# Altium schematic symbol library bk_sch.SchLib: 34 symbols
Pins are listed as number, name and electrical type; pins without a type are passive.

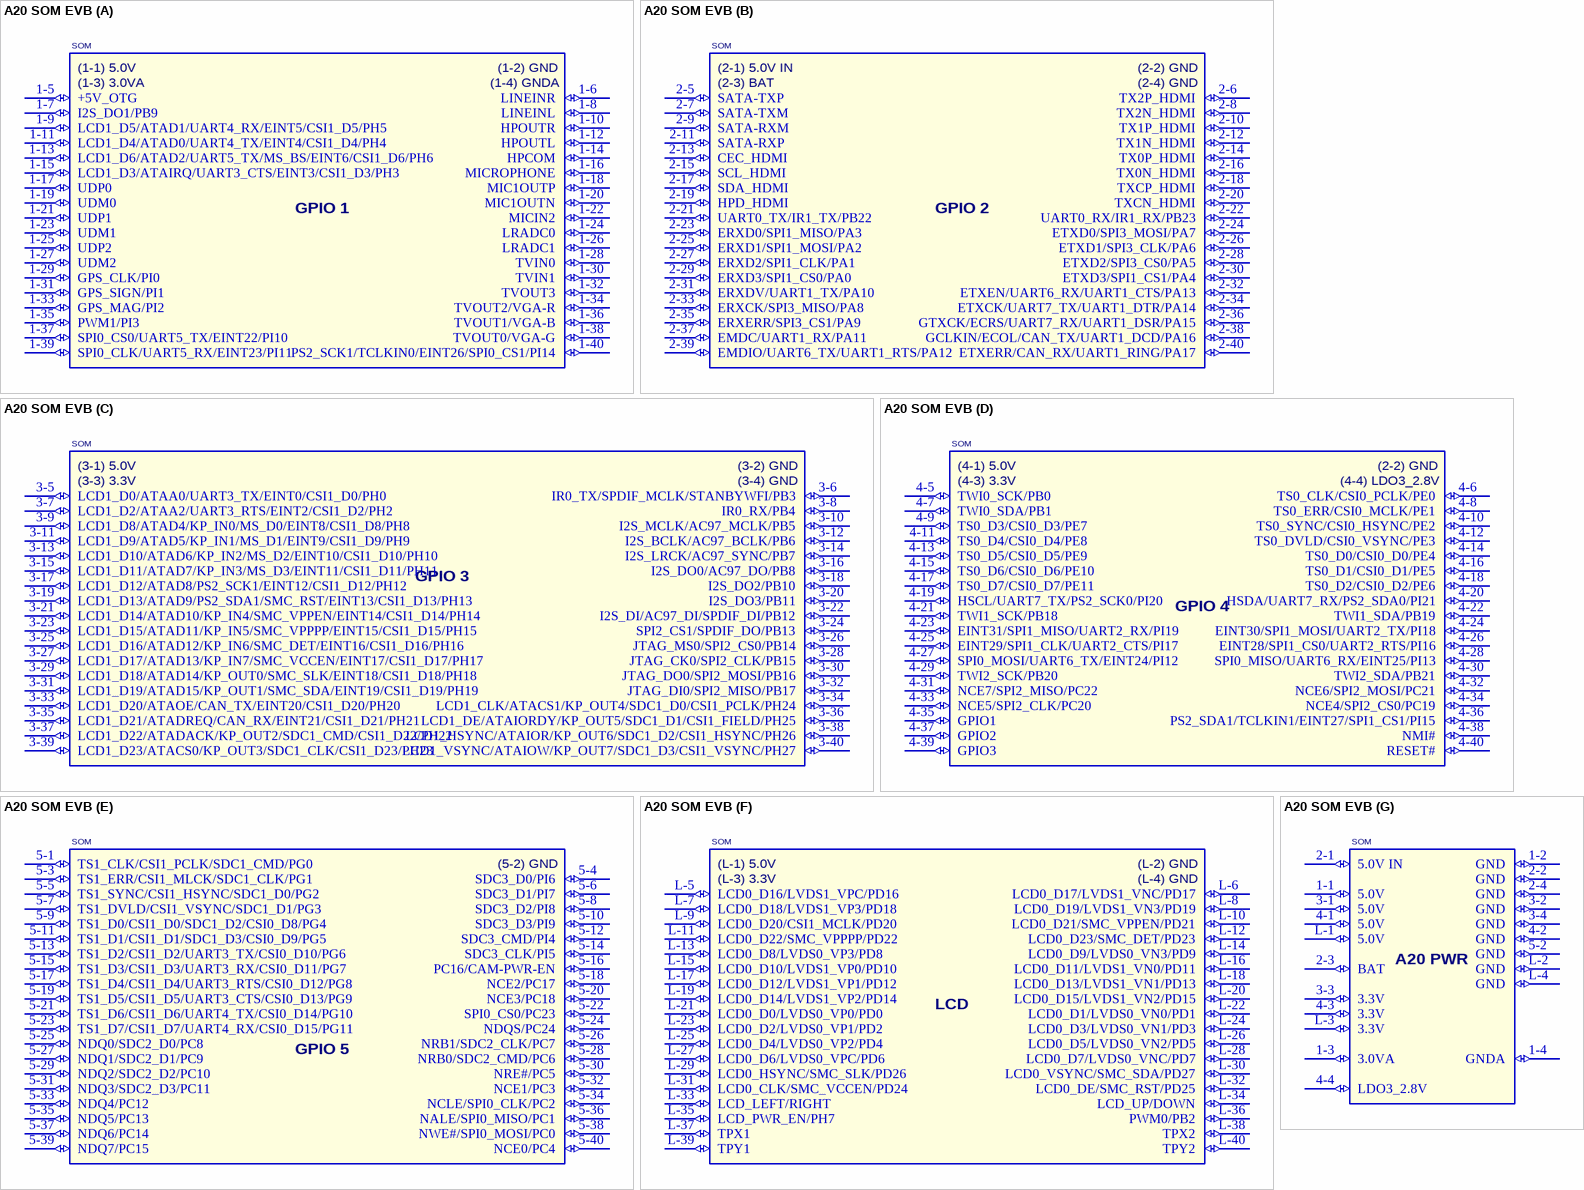
[diagram p0: symbol A20 SOM EVB]

## A20 SOM EVB
designator =Name  Name: SOM
footprint A20 SOM EVB
part A pins: 1-5 +5V_OTG (io), 1-6 LINEINR (io), 1-7 I2S_DO1/PB9 (io), 1-8 LINEINL (io), 1-9 LCD1_D5/ATAD1/UART4_RX/EINT5/CSI1_D5/PH5 (io), 1-10 HPOUTR (io), 1-11 LCD1_D4/ATAD0/UART4_TX/EINT4/CSI1_D4/PH4 (io), 1-12 HPOUTL (io), 1-13 LCD1_D6/ATAD2/UART5_TX/MS_BS/EINT6/CSI1_D6/PH6 (io), 1-14 HPCOM (io), 1-15 LCD1_D3/ATAIRQ/UART3_CTS/EINT3/CSI1_D3/PH3 (io), 1-16 MICROPHONE (io), 1-17 UDP0 (io), 1-18 MIC1OUTP (io), 1-19 UDM0 (io), 1-20 MIC1OUTN (io), 1-21 UDP1 (io), 1-22 MICIN2 (io), 1-23 UDM1 (io), 1-24 LRADC0 (io), 1-25 UDP2 (io), 1-26 LRADC1 (io), 1-27 UDM2 (io), 1-28 TVIN0 (io), 1-29 GPS_CLK/PI0 (io), 1-30 TVIN1 (io), 1-31 GPS_SIGN/PI1 (io), 1-32 TVOUT3 (io), 1-33 GPS_MAG/PI2 (io), 1-34 TVOUT2/VGA-R (io), 1-35 PWM1/PI3 (io), 1-36 TVOUT1/VGA-B (io), 1-37 SPI0_CS0/UART5_TX/EINT22/PI10 (io), 1-38 TVOUT0/VGA-G (io), 1-39 SPI0_CLK/UART5_RX/EINT23/PI11 (io), 1-40 PS2_SCK1/TCLKIN0/EINT26/SPI0_CS1/PI14 (io)
part B pins: 2-5 SATA-TXP (io), 2-6 TX2P_HDMI (io), 2-7 SATA-TXM (io), 2-8 TX2N_HDMI (io), 2-9 SATA-RXM (io), 2-10 TX1P_HDMI (io), 2-11 SATA-RXP (io), 2-12 TX1N_HDMI (io), 2-13 CEC_HDMI (io), 2-14 TX0P_HDMI (io), 2-15 SCL_HDMI (io), 2-16 TX0N_HDMI (io), 2-17 SDA_HDMI (io), 2-18 TXCP_HDMI (io), 2-19 HPD_HDMI (io), 2-20 TXCN_HDMI (io), 2-21 UART0_TX/IR1_TX/PB22 (io), 2-22 UART0_RX/IR1_RX/PB23 (io), 2-23 ERXD0/SPI1_MISO/PA3 (io), 2-24 ETXD0/SPI3_MOSI/PA7 (io), 2-25 ERXD1/SPI1_MOSI/PA2 (io), 2-26 ETXD1/SPI3_CLK/PA6 (io), 2-27 ERXD2/SPI1_CLK/PA1 (io), 2-28 ETXD2/SPI3_CS0/PA5 (io), 2-29 ERXD3/SPI1_CS0/PA0 (io), 2-30 ETXD3/SPI1_CS1/PA4 (io), 2-31 ERXDV/UART1_TX/PA10 (io), 2-32 ETXEN/UART6_RX/UART1_CTS/PA13 (io), 2-33 ERXCK/SPI3_MISO/PA8 (io), 2-34 ETXCK/UART7_TX/UART1_DTR/PA14 (io), 2-35 ERXERR/SPI3_CS1/PA9 (io), 2-36 GTXCK/ECRS/UART7_RX/UART1_DSR/PA15 (io), 2-37 EMDC/UART1_RX/PA11 (io), 2-38 GCLKIN/ECOL/CAN_TX/UART1_DCD/PA16 (io), 2-39 EMDIO/UART6_TX/UART1_RTS/PA12 (io), 2-40 ETXERR/CAN_RX/UART1_RING/PA17 (io)
part C pins: 3-5 LCD1_D0/ATAA0/UART3_TX/EINT0/CSI1_D0/PH0 (io), 3-6 IR0_TX/SPDIF_MCLK/STANBYWFI/PB3 (io), 3-7 LCD1_D2/ATAA2/UART3_RTS/EINT2/CSI1_D2/PH2 (io), 3-8 IR0_RX/PB4 (io), 3-9 LCD1_D8/ATAD4/KP_IN0/MS_D0/EINT8/CSI1_D8/PH8 (io), 3-10 I2S_MCLK/AC97_MCLK/PB5 (io), 3-11 LCD1_D9/ATAD5/KP_IN1/MS_D1/EINT9/CSI1_D9/PH9 (io), 3-12 I2S_BCLK/AC97_BCLK/PB6 (io), 3-13 LCD1_D10/ATAD6/KP_IN2/MS_D2/EINT10/CSI1_D10/PH10 (io), 3-14 I2S_LRCK/AC97_SYNC/PB7 (io), 3-15 LCD1_D11/ATAD7/KP_IN3/MS_D3/EINT11/CSI1_D11/PH11 (io), 3-16 I2S_DO0/AC97_DO/PB8 (io), 3-17 LCD1_D12/ATAD8/PS2_SCK1/EINT12/CSI1_D12/PH12 (io), 3-18 I2S_DO2/PB10 (io), 3-19 LCD1_D13/ATAD9/PS2_SDA1/SMC_RST/EINT13/CSI1_D13/PH13 (io), 3-20 I2S_DO3/PB11 (io), 3-21 LCD1_D14/ATAD10/KP_IN4/SMC_VPPEN/EINT14/CSI1_D14/PH14 (io), 3-22 I2S_DI/AC97_DI/SPDIF_DI/PB12 (io), 3-23 LCD1_D15/ATAD11/KP_IN5/SMC_VPPPP/EINT15/CSI1_D15/PH15 (io), 3-24 SPI2_CS1/SPDIF_DO/PB13 (io), 3-25 LCD1_D16/ATAD12/KP_IN6/SMC_DET/EINT16/CSI1_D16/PH16 (io), 3-26 JTAG_MS0/SPI2_CS0/PB14 (io), 3-27 LCD1_D17/ATAD13/KP_IN7/SMC_VCCEN/EINT17/CSI1_D17/PH17 (io), 3-28 JTAG_CK0/SPI2_CLK/PB15 (io), 3-29 LCD1_D18/ATAD14/KP_OUT0/SMC_SLK/EINT18/CSI1_D18/PH18 (io), 3-30 JTAG_DO0/SPI2_MOSI/PB16 (io), 3-31 LCD1_D19/ATAD15/KP_OUT1/SMC_SDA/EINT19/CSI1_D19/PH19 (io), 3-32 JTAG_DI0/SPI2_MISO/PB17 (io), 3-33 LCD1_D20/ATAOE/CAN_TX/EINT20/CSI1_D20/PH20 (io), 3-34 LCD1_CLK/ATACS1/KP_OUT4/SDC1_D0/CSI1_PCLK/PH24 (io), 3-35 LCD1_D21/ATADREQ/CAN_RX/EINT21/CSI1_D21/PH21 (io), 3-36 LCD1_DE/ATAIORDY/KP_OUT5/SDC1_D1/CSI1_FIELD/PH25 (io), 3-37 LCD1_D22/ATADACK/KP_OUT2/SDC1_CMD/CSI1_D22/PH22 (io), 3-38 LCD1_HSYNC/ATAIOR/KP_OUT6/SDC1_D2/CSI1_HSYNC/PH26 (io), 3-39 LCD1_D23/ATACS0/KP_OUT3/SDC1_CLK/CSI1_D23/PH23 (io), 3-40 LCD1_VSYNC/ATAIOW/KP_OUT7/SDC1_D3/CSI1_VSYNC/PH27 (io)
part D pins: 4-5 TWI0_SCK/PB0 (io), 4-6 TS0_CLK/CSI0_PCLK/PE0 (io), 4-7 TWI0_SDA/PB1 (io), 4-8 TS0_ERR/CSI0_MCLK/PE1 (io), 4-9 TS0_D3/CSI0_D3/PE7 (io), 4-10 TS0_SYNC/CSI0_HSYNC/PE2 (io), 4-11 TS0_D4/CSI0_D4/PE8 (io), 4-12 TS0_DVLD/CSI0_VSYNC/PE3 (io), 4-13 TS0_D5/CSI0_D5/PE9 (io), 4-14 TS0_D0/CSI0_D0/PE4 (io), 4-15 TS0_D6/CSI0_D6/PE10 (io), 4-16 TS0_D1/CSI0_D1/PE5 (io), 4-17 TS0_D7/CSI0_D7/PE11 (io), 4-18 TS0_D2/CSI0_D2/PE6 (io), 4-19 HSCL/UART7_TX/PS2_SCK0/PI20 (io), 4-20 HSDA/UART7_RX/PS2_SDA0/PI21 (io), 4-21 TWI1_SCK/PB18 (io), 4-22 TWI1_SDA/PB19 (io), 4-23 EINT31/SPI1_MISO/UART2_RX/PI19 (io), 4-24 EINT30/SPI1_MOSI/UART2_TX/PI18 (io), 4-25 EINT29/SPI1_CLK/UART2_CTS/PI17 (io), 4-26 EINT28/SPI1_CS0/UART2_RTS/PI16 (io), 4-27 SPI0_MOSI/UART6_TX/EINT24/PI12 (io), 4-28 SPI0_MISO/UART6_RX/EINT25/PI13 (io), 4-29 TWI2_SCK/PB20 (io), 4-30 TWI2_SDA/PB21 (io), 4-31 NCE7/SPI2_MISO/PC22 (io), 4-32 NCE6/SPI2_MOSI/PC21 (io), 4-33 NCE5/SPI2_CLK/PC20 (io), 4-34 NCE4/SPI2_CS0/PC19 (io), 4-35 GPIO1 (io), 4-36 PS2_SDA1/TCLKIN1/EINT27/SPI1_CS1/PI15 (io), 4-37 GPIO2 (io), 4-38 NMI# (io), 4-39 GPIO3 (io), 4-40 RESET# (io)
part E pins: 5-1 TS1_CLK/CSI1_PCLK/SDC1_CMD/PG0 (io), 5-3 TS1_ERR/CSI1_MLCK/SDC1_CLK/PG1 (io), 5-4 SDC3_D0/PI6 (io), 5-5 TS1_SYNC/CSI1_HSYNC/SDC1_D0/PG2 (io), 5-6 SDC3_D1/PI7 (io), 5-7 TS1_DVLD/CSI1_VSYNC/SDC1_D1/PG3 (io), 5-8 SDC3_D2/PI8 (io), 5-9 TS1_D0/CSI1_D0/SDC1_D2/CSI0_D8/PG4 (io), 5-10 SDC3_D3/PI9 (io), 5-11 TS1_D1/CSI1_D1/SDC1_D3/CSI0_D9/PG5 (io), 5-12 SDC3_CMD/PI4 (io), 5-13 TS1_D2/CSI1_D2/UART3_TX/CSI0_D10/PG6 (io), 5-14 SDC3_CLK/PI5 (io), 5-15 TS1_D3/CSI1_D3/UART3_RX/CSI0_D11/PG7 (io), 5-16 PC16/CAM-PWR-EN (io), 5-17 TS1_D4/CSI1_D4/UART3_RTS/CSI0_D12/PG8 (io), 5-18 NCE2/PC17 (io), 5-19 TS1_D5/CSI1_D5/UART3_CTS/CSI0_D13/PG9 (io), 5-20 NCE3/PC18 (io), 5-21 TS1_D6/CSI1_D6/UART4_TX/CSI0_D14/PG10 (io), 5-22 SPI0_CS0/PC23 (io), 5-23 TS1_D7/CSI1_D7/UART4_RX/CSI0_D15/PG11 (io), 5-24 NDQS/PC24 (io), 5-25 NDQ0/SDC2_D0/PC8 (io), 5-26 NRB1/SDC2_CLK/PC7 (io), 5-27 NDQ1/SDC2_D1/PC9 (io), 5-28 NRB0/SDC2_CMD/PC6 (io), 5-29 NDQ2/SDC2_D2/PC10 (io), 5-30 NRE#/PC5 (io), 5-31 NDQ3/SDC2_D3/PC11 (io), 5-32 NCE1/PC3 (io), 5-33 NDQ4/PC12 (io), 5-34 NCLE/SPI0_CLK/PC2 (io), 5-35 NDQ5/PC13 (io), 5-36 NALE/SPI0_MISO/PC1 (io), 5-37 NDQ6/PC14 (io), 5-38 NWE#/SPI0_MOSI/PC0 (io), 5-39 NDQ7/PC15 (io), 5-40 NCE0/PC4 (io)
part F pins: L-5 LCD0_D16/LVDS1_VPC/PD16 (io), L-6 LCD0_D17/LVDS1_VNC/PD17 (io), L-7 LCD0_D18/LVDS1_VP3/PD18 (io), L-8 LCD0_D19/LVDS1_VN3/PD19 (io), L-9 LCD0_D20/CSI1_MCLK/PD20 (io), L-10 LCD0_D21/SMC_VPPEN/PD21 (io), L-11 LCD0_D22/SMC_VPPPP/PD22 (io), L-12 LCD0_D23/SMC_DET/PD23 (io), L-13 LCD0_D8/LVDS0_VP3/PD8 (io), L-14 LCD0_D9/LVDS0_VN3/PD9 (io), L-15 LCD0_D10/LVDS1_VP0/PD10 (io), L-16 LCD0_D11/LVDS1_VN0/PD11 (io), L-17 LCD0_D12/LVDS1_VP1/PD12 (io), L-18 LCD0_D13/LVDS1_VN1/PD13 (io), L-19 LCD0_D14/LVDS1_VP2/PD14 (io), L-20 LCD0_D15/LVDS1_VN2/PD15 (io), L-21 LCD0_D0/LVDS0_VP0/PD0 (io), L-22 LCD0_D1/LVDS0_VN0/PD1 (io), L-23 LCD0_D2/LVDS0_VP1/PD2 (io), L-24 LCD0_D3/LVDS0_VN1/PD3 (io), L-25 LCD0_D4/LVDS0_VP2/PD4 (io), L-26 LCD0_D5/LVDS0_VN2/PD5 (io), L-27 LCD0_D6/LVDS0_VPC/PD6 (io), L-28 LCD0_D7/LVDS0_VNC/PD7 (io), L-29 LCD0_HSYNC/SMC_SLK/PD26 (io), L-30 LCD0_VSYNC/SMC_SDA/PD27 (io), L-31 LCD0_CLK/SMC_VCCEN/PD24 (io), L-32 LCD0_DE/SMC_RST/PD25 (io), L-33 LCD_LEFT/RIGHT (io), L-34 LCD_UP/DOWN (io), L-35 LCD_PWR_EN/PH7 (io), L-36 PWM0/PB2 (io), L-37 TPX1 (io), L-38 TPX2 (io), L-39 TPY1 (io), L-40 TPY2 (io)
part G pins: 1-1 5.0V (io), 1-2 GND (io), 1-3 3.0VA (io), 1-4 GNDA (io), 2-1 5.0V IN (io), 2-2 GND (io), 2-3 BAT (io), 2-4 GND (io), 3-1 5.0V (io), 3-2 GND (io), 3-3 3.3V (io), 3-4 GND (io), 4-1 5.0V (io), 4-2 GND (io), 4-3 3.3V (io), 4-4 LDO3_2.8V (io), 5-2 GND (io), L-1 5.0V (io), L-2 GND (io), L-3 3.3V (io), L-4 GND (io)
part A text: (1-1) 5.0V; (1-2) GND; (1-3) 3.0VA; (1-4) GNDA; GPIO 1
part B text: (2-1) 5.0V IN; (2-2) GND; (2-3) BAT; (2-4) GND; GPIO 2
part C text: (3-1) 5.0V; (3-2) GND; (3-3) 3.3V; (3-4) GND; GPIO 3
part D text: (4-1) 5.0V; (2-2) GND; (4-3) 3.3V; (4-4) LDO3_2.8V; GPIO 4
part E text: (5-2) GND; GPIO 5
part F text: (L-1) 5.0V; (L-2) GND; (L-3) 3.3V; (L-4) GND; LCD
part G text: A20 PWR

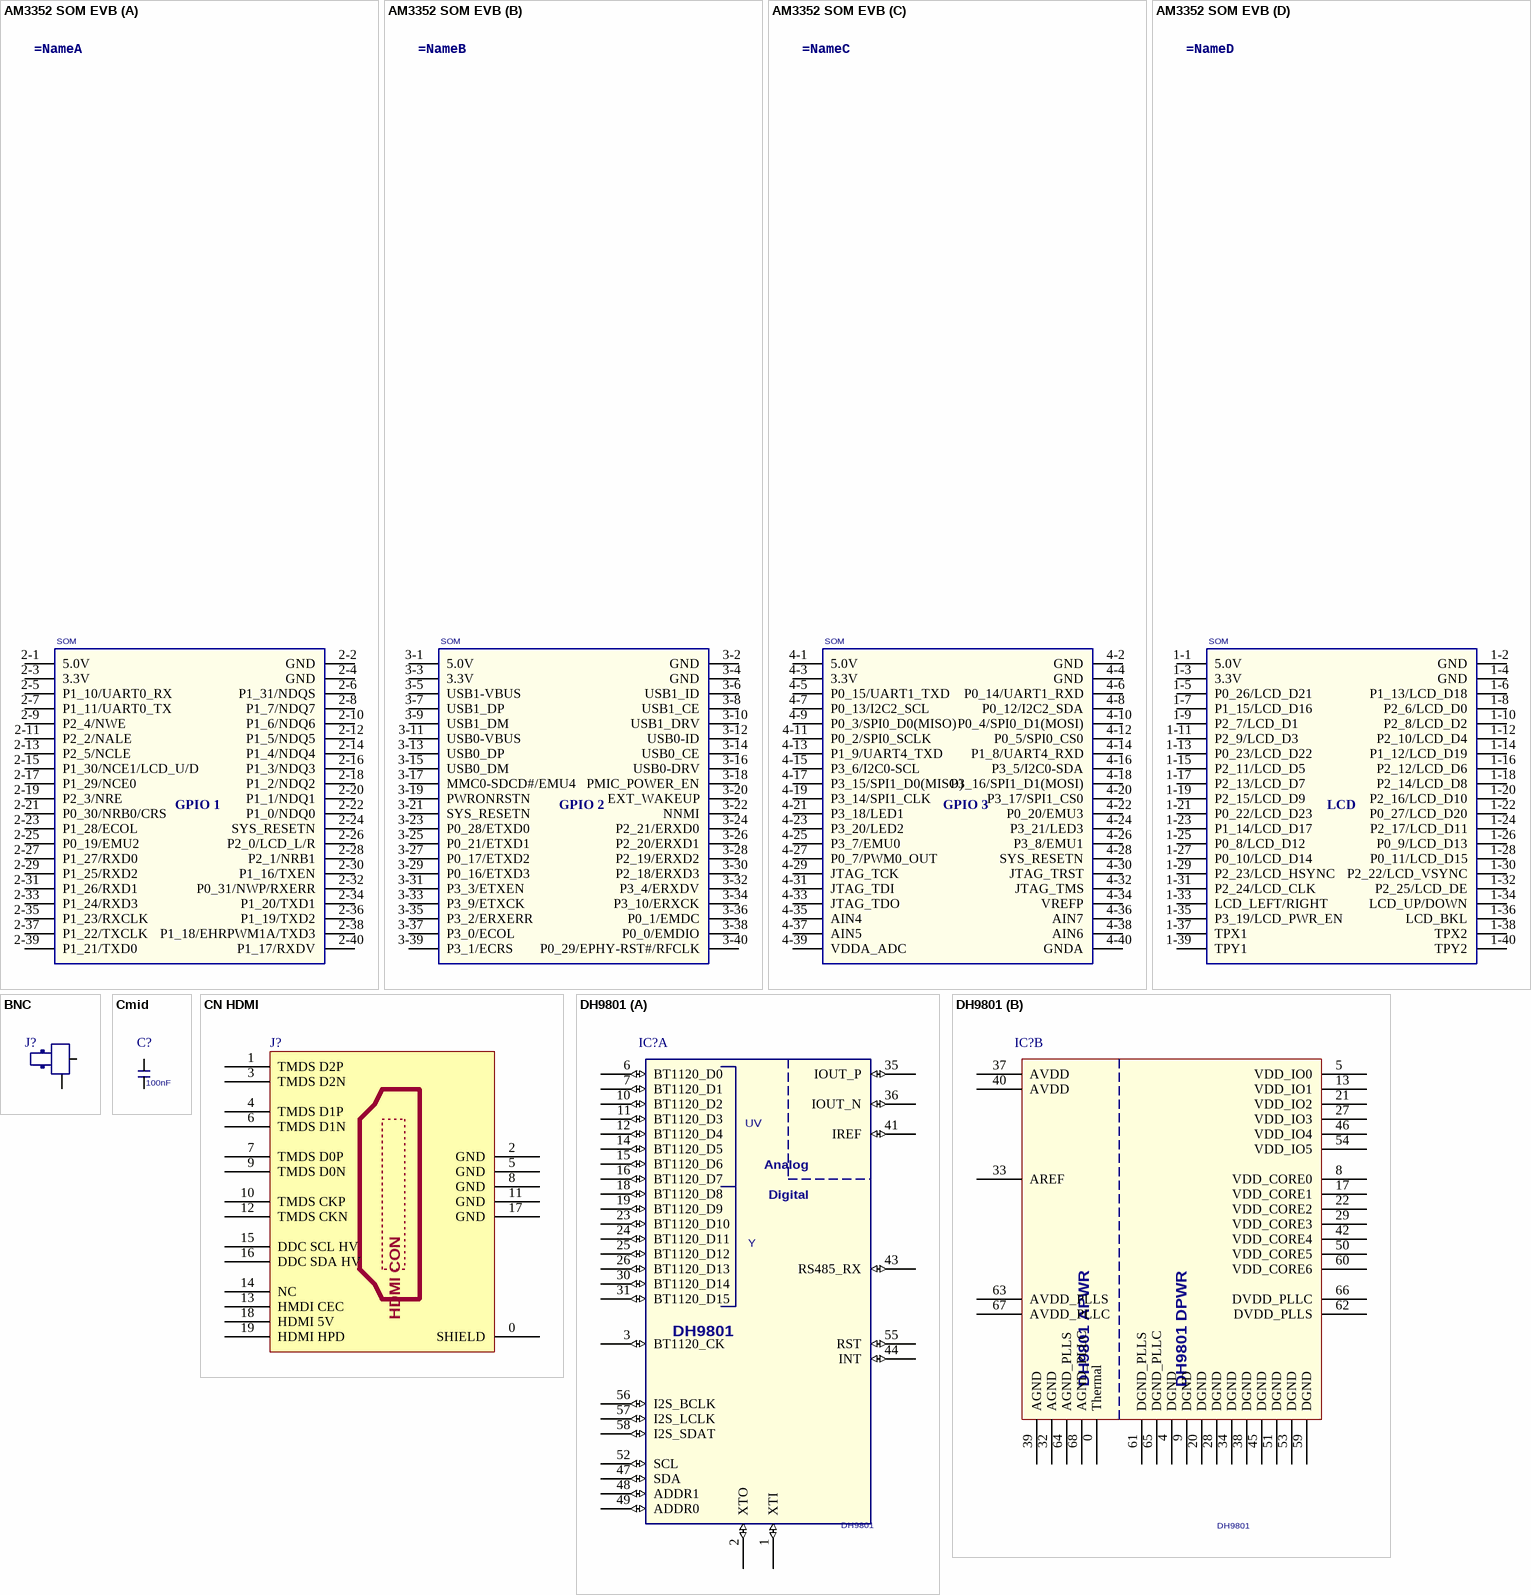
[diagram p1: symbols AM3352 SOM EVB to DH9801]

## AM3352 SOM EVB
designator =Name  Name: SOM
A20 EVB (Olimex)
footprint AM3352 SOM EVB (AM3352-SOM-EVB)
part A pins: 2-1 5.0V, 2-2 GND, 2-3 3.3V, 2-4 GND, 2-5 P1_10/UART0_RX, 2-6 P1_31/NDQS, 2-7 P1_11/UART0_TX, 2-8 P1_7/NDQ7, 2-9 P2_4/NWE, 2-10 P1_6/NDQ6, 2-11 P2_2/NALE, 2-12 P1_5/NDQ5, 2-13 P2_5/NCLE, 2-14 P1_4/NDQ4, 2-15 P1_30/NCE1/LCD_U/D, 2-16 P1_3/NDQ3, 2-17 P1_29/NCE0, 2-18 P1_2/NDQ2, 2-19 P2_3/NRE, 2-20 P1_1/NDQ1, 2-21 P0_30/NRB0/CRS, 2-22 P1_0/NDQ0, 2-23 P1_28/ECOL, 2-24 SYS_RESETN, 2-25 P0_19/EMU2, 2-26 P2_0/LCD_L/R, 2-27 P1_27/RXD0, 2-28 P2_1/NRB1, 2-29 P1_25/RXD2, 2-30 P1_16/TXEN, 2-31 P1_26/RXD1, 2-32 P0_31/NWP/RXERR, 2-33 P1_24/RXD3, 2-34 P1_20/TXD1, 2-35 P1_23/RXCLK, 2-36 P1_19/TXD2, 2-37 P1_22/TXCLK, 2-38 P1_18/EHRPWM1A/TXD3, 2-39 P1_21/TXD0, 2-40 P1_17/RXDV
part B pins: 3-1 5.0V, 3-2 GND, 3-3 3.3V, 3-4 GND, 3-5 USB1-VBUS, 3-6 USB1_ID, 3-7 USB1_DP, 3-8 USB1_CE, 3-9 USB1_DM, 3-10 USB1_DRV, 3-11 USB0-VBUS, 3-12 USB0-ID, 3-13 USB0_DP, 3-14 USB0_CE, 3-15 USB0_DM, 3-16 USB0-DRV, 3-17 MMC0-SDCD#/EMU4, 3-18 PMIC_POWER_EN, 3-19 PWRONRSTN, 3-20 EXT_WAKEUP, 3-21 SYS_RESETN, 3-22 NNMI, 3-23 P0_28/ETXD0, 3-24 P2_21/ERXD0, 3-25 P0_21/ETXD1, 3-26 P2_20/ERXD1, 3-27 P0_17/ETXD2, 3-28 P2_19/ERXD2, 3-29 P0_16/ETXD3, 3-30 P2_18/ERXD3, 3-31 P3_3/ETXEN, 3-32 P3_4/ERXDV, 3-33 P3_9/ETXCK, 3-34 P3_10/ERXCK, 3-35 P3_2/ERXERR, 3-36 P0_1/EMDC, 3-37 P3_0/ECOL, 3-38 P0_0/EMDIO, 3-39 P3_1/ECRS, 3-40 P0_29/EPHY-RST#/RFCLK
part C pins: 4-1 5.0V, 4-2 GND, 4-3 3.3V, 4-4 GND, 4-5 P0_15/UART1_TXD, 4-6 P0_14/UART1_RXD, 4-7 P0_13/I2C2_SCL, 4-8 P0_12/I2C2_SDA, 4-9 P0_3/SPI0_D0(MISO), 4-10 P0_4/SPI0_D1(MOSI), 4-11 P0_2/SPI0_SCLK, 4-12 P0_5/SPI0_CS0, 4-13 P1_9/UART4_TXD, 4-14 P1_8/UART4_RXD, 4-15 P3_6/I2C0-SCL, 4-16 P3_5/I2C0-SDA, 4-17 P3_15/SPI1_D0(MISO), 4-18 P3_16/SPI1_D1(MOSI), 4-19 P3_14/SPI1_CLK, 4-20 P3_17/SPI1_CS0, 4-21 P3_18/LED1, 4-22 P0_20/EMU3, 4-23 P3_20/LED2, 4-24 P3_21/LED3, 4-25 P3_7/EMU0, 4-26 P3_8/EMU1, 4-27 P0_7/PWM0_OUT, 4-28 SYS_RESETN, 4-29 JTAG_TCK, 4-30 JTAG_TRST, 4-31 JTAG_TDI, 4-32 JTAG_TMS, 4-33 JTAG_TDO, 4-34 VREFP, 4-35 AIN4, 4-36 AIN7, 4-37 AIN5, 4-38 AIN6, 4-39 VDDA_ADC, 4-40 GNDA
part D pins: 1-1 5.0V, 1-2 GND, 1-3 3.3V, 1-4 GND, 1-5 P0_26/LCD_D21, 1-6 P1_13/LCD_D18, 1-7 P1_15/LCD_D16, 1-8 P2_6/LCD_D0, 1-9 P2_7/LCD_D1, 1-10 P2_8/LCD_D2, 1-11 P2_9/LCD_D3, 1-12 P2_10/LCD_D4, 1-13 P0_23/LCD_D22, 1-14 P1_12/LCD_D19, 1-15 P2_11/LCD_D5, 1-16 P2_12/LCD_D6, 1-17 P2_13/LCD_D7, 1-18 P2_14/LCD_D8, 1-19 P2_15/LCD_D9, 1-20 P2_16/LCD_D10, 1-21 P0_22/LCD_D23, 1-22 P0_27/LCD_D20, 1-23 P1_14/LCD_D17, 1-24 P2_17/LCD_D11, 1-25 P0_8/LCD_D12, 1-26 P0_9/LCD_D13, 1-27 P0_10/LCD_D14, 1-28 P0_11/LCD_D15, 1-29 P2_23/LCD_HSYNC, 1-30 P2_22/LCD_VSYNC, 1-31 P2_24/LCD_CLK, 1-32 P2_25/LCD_DE, 1-33 LCD_LEFT/RIGHT, 1-34 LCD_UP/DOWN, 1-35 P3_19/LCD_PWR_EN, 1-36 LCD_BKL, 1-37 TPX1, 1-38 TPX2, 1-39 TPY1, 1-40 TPY2
part A text: GPIO 1
part B text: GPIO 2
part C text: GPIO 3
part D text: LCD

## BNC
designator J?
Name: J?
footprint BNC
pins: 1 hot (power), 2 GND (power)

## Cmid
designator C?, comment 100nF
Name: C?; Value: 100nF
footprint C0603
pins: 1 VDD (power), 2 VDD (power)

## CN HDMI
designator J?, comment AUK HDM19SW-4-L2-1R3HHCN  (value not drawn)
Molex HDMI connector, Type A; Name: J?; LatestRevisionDate: 17-Jul-2002; LatestRevisionNote: Re-released for DXP Platform.; Publisher: Altium Limited
footprint MOLEX_47151-0001 (Molex HDMI right angle header assembly)
signal-integrity model Connector
pins: 0 SHIELD, 1 TMDS D2P, 2 GND, 3 TMDS D2N, 4 TMDS D1P, 5 GND, 6 TMDS D1N, 7 TMDS D0P, 8 GND, 9 TMDS D0N, 10 TMDS CKP, 11 GND, 12 TMDS CKN, 13 HMDI CEC, 14 NC, 15 DDC SCL HV, 16 DDC SDA HV, 17 GND, 18 HDMI 5V, 19 HDMI HPD
text: HDMI CON

## DH9801
designator IC?
HD-CVI enc; Name: IC?; Value: DH9801
footprint MQFN68
part A pins: 1 XTI (io), 2 XTO (io), 3 BT1120_CK (io), 6 BT1120_D0 (io), 7 BT1120_D1 (io), 10 BT1120_D2 (io), 11 BT1120_D3 (io), 12 BT1120_D4 (io), 14 BT1120_D5 (io), 15 BT1120_D6 (io), 16 BT1120_D7 (io), 18 BT1120_D8 (io), 19 BT1120_D9 (io), 23 BT1120_D10 (io), 24 BT1120_D11 (io), 25 BT1120_D12 (io), 26 BT1120_D13 (io), 30 BT1120_D14 (io), 31 BT1120_D15 (io), 35 IOUT_P (io), 36 IOUT_N (io), 41 IREF (io), 43 RS485_RX (io), 44 INT (io), 47 SDA (io), 48 ADDR1 (io), 49 ADDR0 (io), 52 SCL (io), 55 RST (io), 56 I2S_BCLK (io), 57 I2S_LCLK (io), 58 I2S_SDAT (io)
part B pins: 0 Thermal (power), 4 DGND (power), 5 VDD_IO0 (power), 8 VDD_CORE0 (power), 9 DGND (power), 13 VDD_IO1 (power), 17 VDD_CORE1 (power), 20 DGND (power), 21 VDD_IO2 (power), 22 VDD_CORE2 (power), 27 VDD_IO3 (power), 28 DGND (power), 29 VDD_CORE3 (power), 32 AGND (power), 33 AREF (power), 34 DGND (power), 37 AVDD (power), 38 DGND (power), 39 AGND (power), 40 AVDD (power), 42 VDD_CORE4 (power), 45 DGND (power), 46 VDD_IO4 (power), 50 VDD_CORE5 (power), 51 DGND (power), 53 DGND (power), 54 VDD_IO5 (power), 59 DGND (power), 60 VDD_CORE6 (power), 61 DGND_PLLS (power), 62 DVDD_PLLS (power), 63 AVDD_PLLS (power), 64 AGND_PLLS (power), 65 DGND_PLLC (power), 66 DVDD_PLLC (power), 67 AVDD_PLLC (power), 68 AGND_PLLC (power)
part A text: UV; Analog; Digital; Y
part B text: DH9801 APWR; DH9801 DPWR

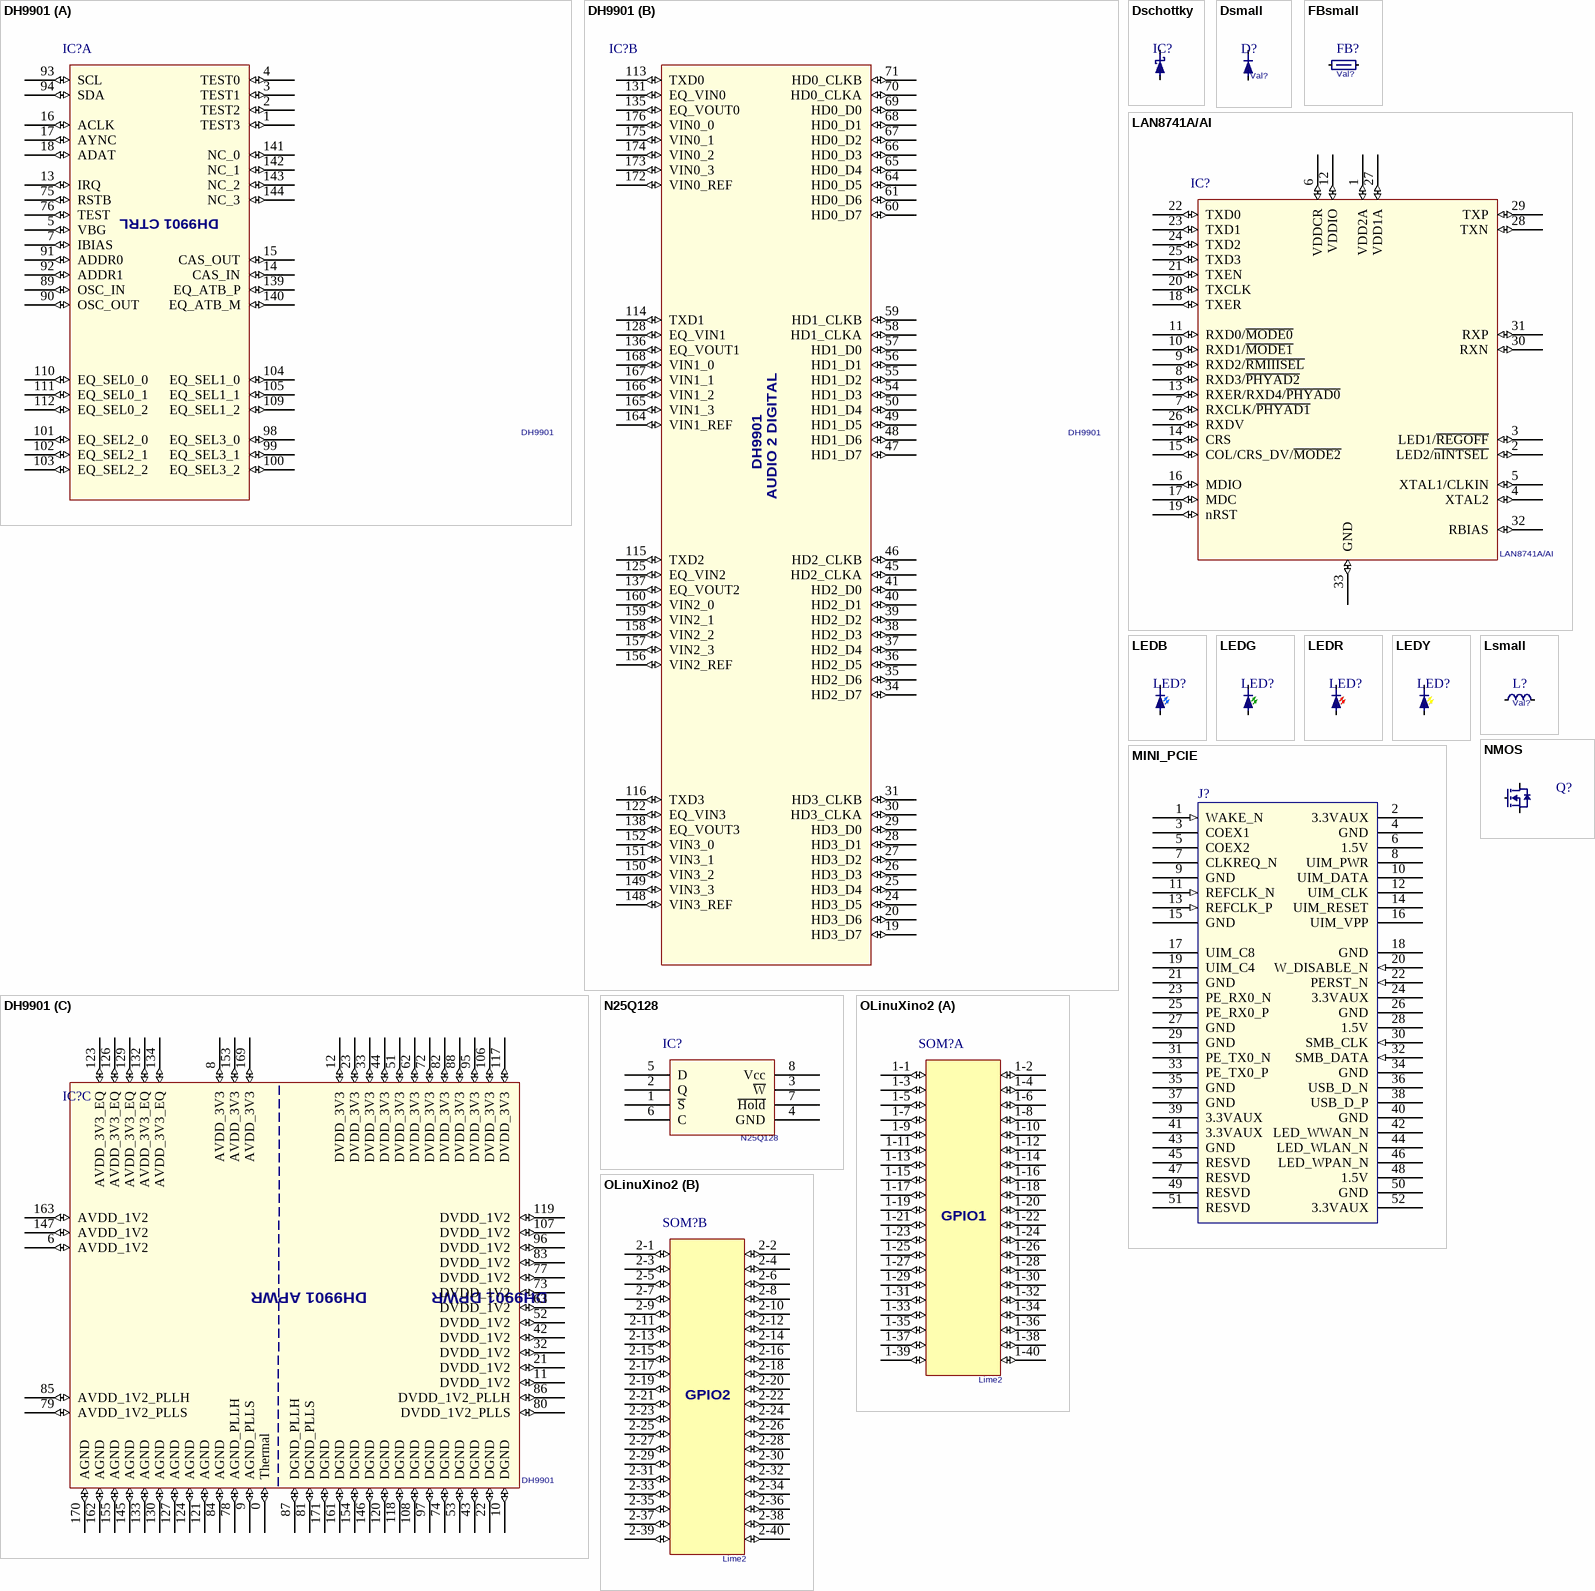
[diagram p2: symbols DH9901 to OLinuXino2]

## DH9901
designator IC?
HD-CVI dec; Name: IC?; Value: DH9901
footprint LQFP-EPAD 176 (TSQFP, 176-Leads, Body 20,00x20,00mm, Pitch 0,40mm, Thermal Pad 6,50x6,50mm, IPC Medium Density)
footprint LQFP-EPAD 176 - duplicate (TSQFP, 176-Leads, Body 20,00x20,00mm, Pitch 0,40mm, Thermal Pad 6,50x6,50mm, IPC Medium Density)
part A pins: 1 TEST3 (io), 2 TEST2 (io), 3 TEST1 (io), 4 TEST0 (io), 5 VBG (io), 7 IBIAS (io), 13 IRQ (io), 14 CAS_IN (io), 15 CAS_OUT (io), 16 ACLK (io), 17 AYNC (io), 18 ADAT (io), 75 RSTB (io), 76 TEST (io), 89 OSC_IN (io), 90 OSC_OUT (io), 91 ADDR0 (io), 92 ADDR1 (io), 93 SCL (io), 94 SDA (io), 98 EQ_SEL3_0 (io), 99 EQ_SEL3_1 (io), 100 EQ_SEL3_2 (io), 101 EQ_SEL2_0 (io), 102 EQ_SEL2_1 (io), 103 EQ_SEL2_2 (io), 104 EQ_SEL1_0 (io), 105 EQ_SEL1_1 (io), 109 EQ_SEL1_2 (io), 110 EQ_SEL0_0 (io), 111 EQ_SEL0_1 (io), 112 EQ_SEL0_2 (io), 139 EQ_ATB_P (io), 140 EQ_ATB_M (io), 141 NC_0 (io), 142 NC_1 (io), 143 NC_2 (io), 144 NC_3 (io)
part B pins: 19 HD3_D7 (io), 20 HD3_D6 (io), 24 HD3_D5 (io), 25 HD3_D4 (io), 26 HD3_D3 (io), 27 HD3_D2 (io), 28 HD3_D1 (io), 29 HD3_D0 (io), 30 HD3_CLKA (io), 31 HD3_CLKB (io), 34 HD2_D7 (io), 35 HD2_D6 (io), 36 HD2_D5 (io), 37 HD2_D4 (io), 38 HD2_D3 (io), 39 HD2_D2 (io), 40 HD2_D1 (io), 41 HD2_D0 (io), 45 HD2_CLKA (io), 46 HD2_CLKB (io), 47 HD1_D7 (io), 48 HD1_D6 (io), 49 HD1_D5 (io), 50 HD1_D4 (io), 54 HD1_D3 (io), 55 HD1_D2 (io), 56 HD1_D1 (io), 57 HD1_D0 (io), 58 HD1_CLKA (io), 59 HD1_CLKB (io), 60 HD0_D7 (io), 61 HD0_D6 (io), 64 HD0_D5 (io), 65 HD0_D4 (io), 66 HD0_D3 (io), 67 HD0_D2 (io), 68 HD0_D1 (io), 69 HD0_D0 (io), 70 HD0_CLKA (io), 71 HD0_CLKB (io), 113 TXD0 (io), 114 TXD1 (io), 115 TXD2 (io), 116 TXD3 (io), 122 EQ_VIN3 (io), 125 EQ_VIN2 (io), 128 EQ_VIN1 (io), 131 EQ_VIN0 (io), 135 EQ_VOUT0 (io), 136 EQ_VOUT1 (io), 137 EQ_VOUT2 (io), 138 EQ_VOUT3 (io), 148 VIN3_REF (io), 149 VIN3_3 (io), 150 VIN3_2 (io), 151 VIN3_1 (io), 152 VIN3_0 (io), 156 VIN2_REF (io), 157 VIN2_3 (io), 158 VIN2_2 (io), 159 VIN2_1 (io), 160 VIN2_0 (io), 164 VIN1_REF (io), 165 VIN1_3 (io), 166 VIN1_2 (io), 167 VIN1_1 (io), 168 VIN1_0 (io), 172 VIN0_REF (io), 173 VIN0_3 (io), 174 VIN0_2 (io), 175 VIN0_1 (io), 176 VIN0_0 (io)
part C pins: 0 Thermal (io), 6 AVDD_1V2 (io), 8 AVDD_3V3 (io), 9 AGND_PLLS (io), 10 DGND (io), 11 DVDD_1V2 (io), 12 DVDD_3V3 (io), 21 DVDD_1V2 (io), 22 DGND (io), 23 DVDD_3V3 (io), 32 DVDD_1V2 (io), 33 DVDD_3V3 (io), 42 DVDD_1V2 (io), 43 DGND (io), 44 DVDD_3V3 (io), 51 DVDD_3V3 (io), 52 DVDD_1V2 (io), 53 DGND (io), 62 DVDD_3V3 (io), 63 DVDD_1V2 (io), 72 DVDD_3V3 (io), 73 DVDD_1V2 (io), 74 DGND (io), 77 DVDD_1V2 (io), 78 AGND_PLLH (io), 79 AVDD_1V2_PLLS (io), 80 DVDD_1V2_PLLS (io), 81 DGND_PLLS (io), 82 DVDD_3V3 (io), 83 DVDD_1V2 (io), 84 AGND (io), 85 AVDD_1V2_PLLH (io), 86 DVDD_1V2_PLLH (io), 87 DGND_PLLH (io), 88 DVDD_3V3 (io), 95 DVDD_3V3 (io), 96 DVDD_1V2 (io), 97 DGND (io), 106 DVDD_3V3 (io), 107 DVDD_1V2 (io), 108 DGND (io), 117 DVDD_3V3 (io), 118 DGND (io), 119 DVDD_1V2 (io), 120 DGND (io), 121 AGND (io), 123 AVDD_3V3_EQ (io), 124 AGND (io), 126 AVDD_3V3_EQ (io), 127 AGND (io), 129 AVDD_3V3_EQ (io), 130 AGND (io), 132 AVDD_3V3_EQ (io), 133 AGND (io), 134 AVDD_3V3_EQ (io), 145 AGND (io), 146 DGND (io), 147 AVDD_1V2 (io), 153 AVDD_3V3 (io), 154 DGND (io), 155 AGND (io), 161 DGND (io), 162 AGND (io), 163 AVDD_1V2 (io), 169 AVDD_3V3 (io), 170 AGND (io), 171 DGND (io)
part A text: DH9901 CTRL
part B text: AUDIO 2 DIGITAL
part C text: DH9901 APWR; DH9901 DPWR

## Dschottky
designator IC?
Name: D?
footprint SMB
footprint SMA
footprint R0805
footprint R0603
pins: 1 (power), 2 (power)

## Dsmall
designator D?, comment Val?
Name: D?; Value: Val?
footprint SMB
footprint SMA
footprint R0805
footprint R0603
pins: 1 (power), 2 (power)

## FBsmall
designator FB?, comment Val?
Name: FB?; Value: Val?
footprint R0603
footprint R0805
footprint L1206
footprint L1210
pins: 1 (power), 2 (power)

## LAN8741A/AI
designator IC?
Name: IC?; Value: LAN8741A/AI
footprint QFN33 (QFN; 33 Leads; Body 7 x 7 mm; Pitch 0.85 mm)
pins: 1 VDD2A (io), 2 LED2/~{nINTSEL} (io), 3 LED1/~{REGOFF} (io), 4 XTAL2 (io), 5 XTAL1/CLKIN (io), 6 VDDCR (io), 7 RXCLK/~{PHYAD1} (io), 8 RXD3/~{PHYAD2} (io), 9 RXD2/~{RMIIISEL} (io), 10 RXD1/~{MODE1} (io), 11 RXD0/~{MODE0} (io), 12 VDDIO (io), 13 RXER/RXD4/~{PHYAD0} (io), 14 CRS (io), 15 COL/CRS_DV/~{MODE2} (io), 16 MDIO (io), 17 MDC (io), 18 TXER (io), 19 nRST (io), 20 TXCLK (io), 21 TXEN (io), 22 TXD0 (io), 23 TXD1 (io), 24 TXD2 (io), 25 TXD3 (io), 26 RXDV (io), 27 VDD1A (io), 28 TXN (io), 29 TXP (io), 30 RXN (io), 31 RXP (io), 32 RBIAS (io), 33 GND (io)

## LEDB
designator LED?, comment BLUE  (value not drawn)
Blue LED; Name: LED?; Value: BLUE
footprint SMB
footprint SMA
footprint R0805
footprint R0603
pins: 1 (power), 2 (power)

## LEDG
designator LED?, comment Green  (value not drawn)
Green LED; Name: LED?; Value: Green
footprint SMB
footprint SMA
footprint R0805
footprint R0603
pins: 1 (power), 2 (power)

## LEDR
designator LED?, comment RED  (value not drawn)
Red LED; Name: LED?; Value: RED
footprint SMB
footprint SMA
footprint R0805
footprint R0603
pins: 1 (power), 2 (power)

## LEDY
designator LED?, comment Yellow  (value not drawn)
Yellow LED; Name: LED?; Value: Yellow
footprint SMB
footprint SMA
footprint R0805
footprint R0603
pins: 1 (power), 2 (power)

## Lsmall
designator L?, comment Val?
Name: L?; Value: Val?
footprint R0805
footprint R0603
footprint L1206
footprint L1210
pins: 1 GND (power), 2 GND (power)

## MINI_PCIE
designator J?, comment Mini PCI-express connector (TE 1717831 or Molex 679101002, 679100002, 0483380070)  (value not drawn)
Mini PCI-express, e.g. TE 1717831; Name: J?
footprint MPCI_FULL_TE_1717831 (Mini PCI-express full-length card)
pins: 1 WAKE_N (in), 2 3.3VAUX (power), 3 COEX1, 4 GND (power), 5 COEX2, 6 1.5V (power), 7 CLKREQ_N, 8 UIM_PWR, 9 GND (power), 10 UIM_DATA, 11 REFCLK_N (in), 12 UIM_CLK, 13 REFCLK_P (in), 14 UIM_RESET, 15 GND (power), 16 UIM_VPP, 17 UIM_C8, 18 GND (power), 19 UIM_C4, 20 W_DISABLE_N (in), 21 GND (power), 22 PERST_N (in), 23 PE_RX0_N, 24 3.3VAUX (power), 25 PE_RX0_P, 26 GND (power), 27 GND (power), 28 1.5V (power), 29 GND (power), 30 SMB_CLK (in), 31 PE_TX0_N, 32 SMB_DATA (in), 33 PE_TX0_P, 34 GND (power), 35 GND (power), 36 USB_D_N, 37 GND (power), 38 USB_D_P, 39 3.3VAUX (power), 40 GND (power), 41 3.3VAUX (power), 42 LED_WWAN_N, 43 GND (power), 44 LED_WLAN_N, 45 RESVD, 46 LED_WPAN_N, 47 RESVD, 48 1.5V (power), 49 RESVD, 50 GND (power), 51 RESVD, 52 3.3VAUX (power)

## N25Q128
designator IC?
Name: IC?; Value: N25Q128
footprint SO8W
pins: 1 ~{S} (power), 2 Q (power), 3 ~{W} (power), 4 GND (power), 5 D (power), 6 C (power), 7 ~{Hold} (power), 8 Vcc (power)

## NMOS
designator Q?
N MOS VDSS 20V Rdson 45mR 4.2A; Name: Q?; Published: 22-Jan-2007; Package Reference: TO-220
footprint sot-23
pins: 1 G, 2 S, 3 D

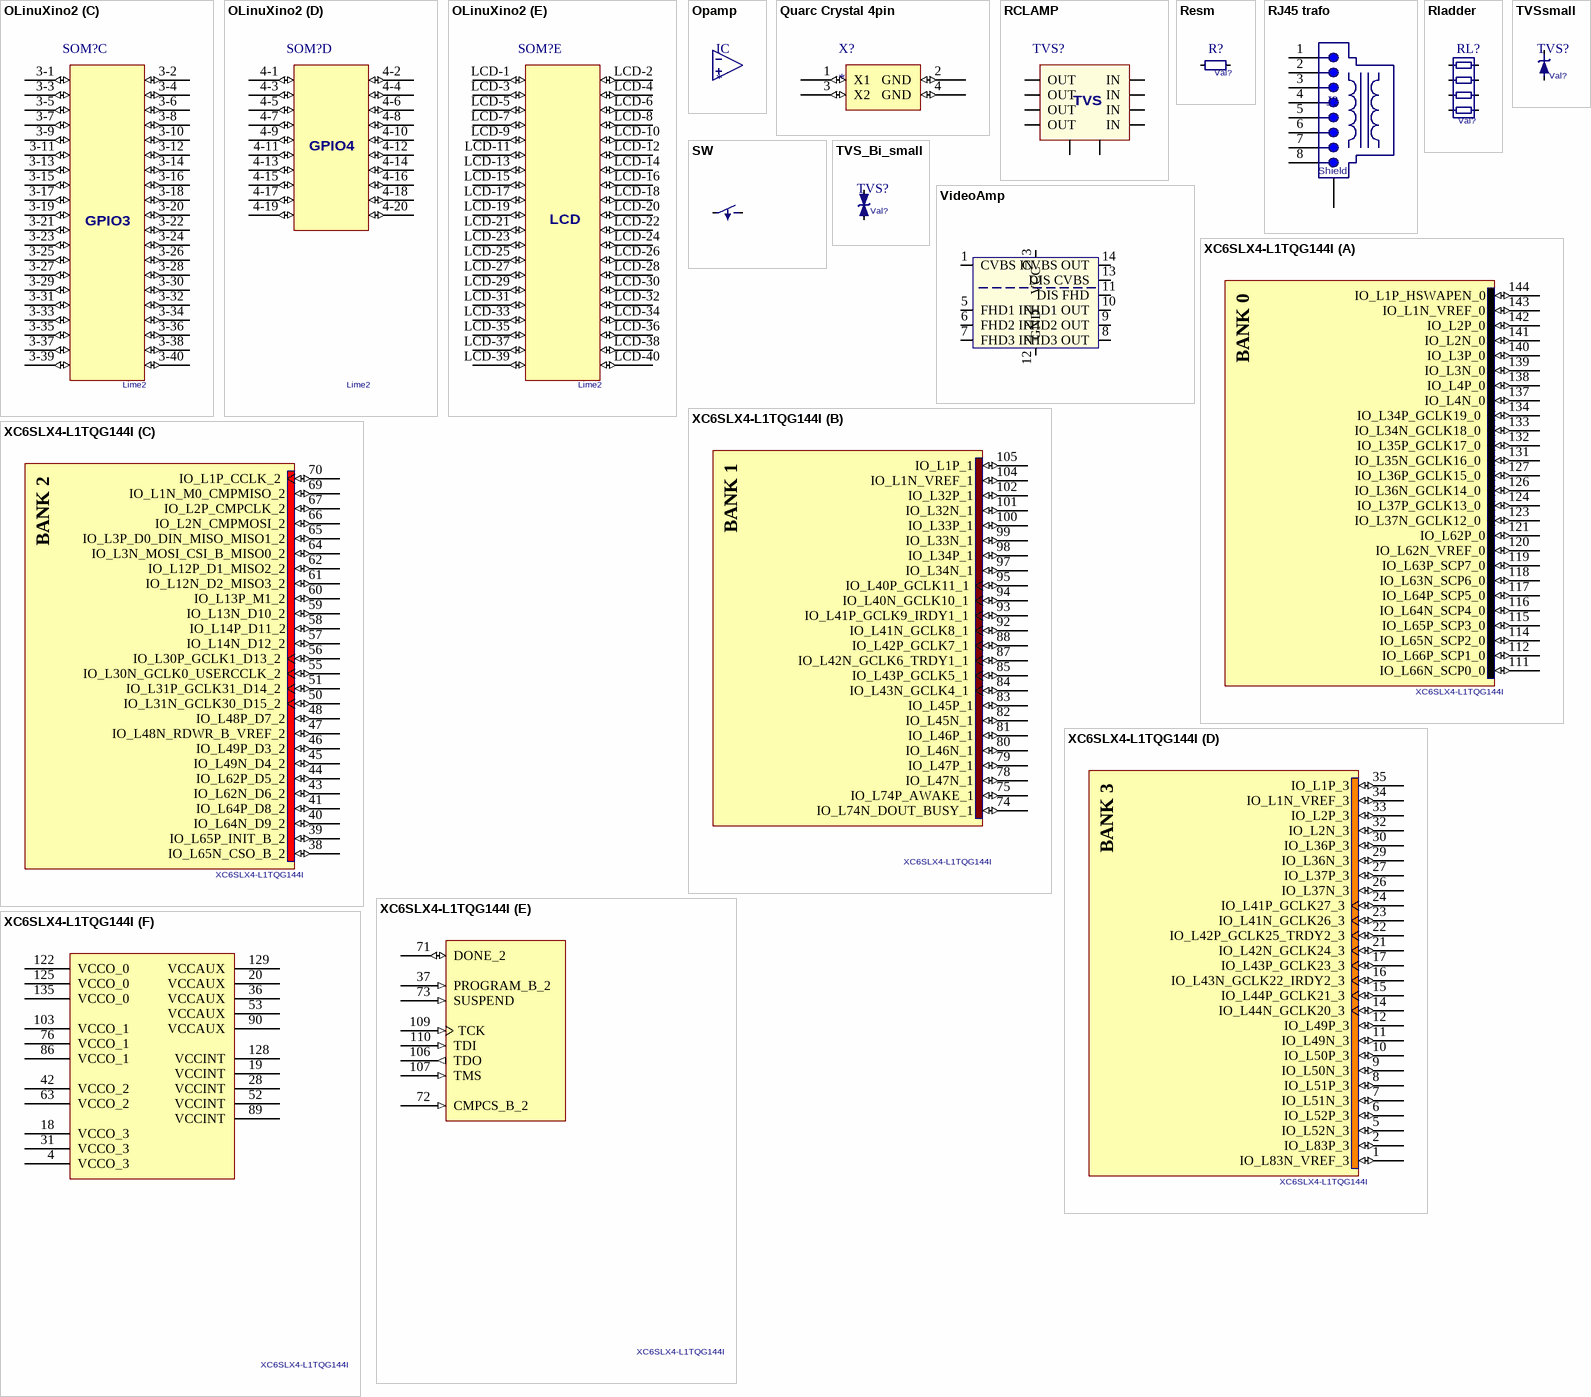
[diagram p3: symbols OLinuXino2 to XC6SLX4-L1TQG144I]

## OLinuXino2
designator SOM?, comment Lime2
Name: IC?; Value: Lime2
footprint OLINUXINO2 (Olinuxino inner dimension)
part A pins: 1-1 (io), 1-2 (io), 1-3 (io), 1-4 (io), 1-5 (io), 1-6 (io), 1-7 (io), 1-8 (io), 1-9 (io), 1-10 (io), 1-11 (io), 1-12 (io), 1-13 (io), 1-14 (io), 1-15 (io), 1-16 (io), 1-17 (io), 1-18 (io), 1-19 (io), 1-20 (io), 1-21 (io), 1-22 (io), 1-23 (io), 1-24 (io), 1-25 (io), 1-26 (io), 1-27 (io), 1-28 (io), 1-29 (io), 1-30 (io), 1-31 (io), 1-32 (io), 1-33 (io), 1-34 (io), 1-35 (io), 1-36 (io), 1-37 (io), 1-38 (io), 1-39 (io), 1-40 (io)
part B pins: 2-1 (io), 2-2 (io), 2-3 (io), 2-4 (io), 2-5 (io), 2-6 (io), 2-7 (io), 2-8 (io), 2-9 (io), 2-10 (io), 2-11 (io), 2-12 (io), 2-13 (io), 2-14 (io), 2-15 (io), 2-16 (io), 2-17 (io), 2-18 (io), 2-19 (io), 2-20 (io), 2-21 (io), 2-22 (io), 2-23 (io), 2-24 (io), 2-25 (io), 2-26 (io), 2-27 (io), 2-28 (io), 2-29 (io), 2-30 (io), 2-31 (io), 2-32 (io), 2-33 (io), 2-34 (io), 2-35 (io), 2-36 (io), 2-37 (io), 2-38 (io), 2-39 (io), 2-40 (io)
part C pins: 3-1 (io), 3-2 (io), 3-3 (io), 3-4 (io), 3-5 (io), 3-6 (io), 3-7 (io), 3-8 (io), 3-9 (io), 3-10 (io), 3-11 (io), 3-12 (io), 3-13 (io), 3-14 (io), 3-15 (io), 3-16 (io), 3-17 (io), 3-18 (io), 3-19 (io), 3-20 (io), 3-21 (io), 3-22 (io), 3-23 (io), 3-24 (io), 3-25 (io), 3-26 (io), 3-27 (io), 3-28 (io), 3-29 (io), 3-30 (io), 3-31 (io), 3-32 (io), 3-33 (io), 3-34 (io), 3-35 (io), 3-36 (io), 3-37 (io), 3-38 (io), 3-39 (io), 3-40 (io)
part D pins: 4-1 (io), 4-2 (io), 4-3 (io), 4-4 (io), 4-5 (io), 4-6 (io), 4-7 (io), 4-8 (io), 4-9 (io), 4-10 (io), 4-11 (io), 4-12 (io), 4-13 (io), 4-14 (io), 4-15 (io), 4-16 (io), 4-17 (io), 4-18 (io), 4-19 (io), 4-20 (io)
part E pins: LCD-1 (io), LCD-2 (io), LCD-3 (io), LCD-4 (io), LCD-5 (io), LCD-6 (io), LCD-7 (io), LCD-8 (io), LCD-9 (io), LCD-10 (io), LCD-11 (io), LCD-12 (io), LCD-13 (io), LCD-14 (io), LCD-15 (io), LCD-16 (io), LCD-17 (io), LCD-18 (io), LCD-19 (io), LCD-20 (io), LCD-21 (io), LCD-22 (io), LCD-23 (io), LCD-24 (io), LCD-25 (io), LCD-26 (io), LCD-27 (io), LCD-28 (io), LCD-29 (io), LCD-30 (io), LCD-31 (io), LCD-32 (io), LCD-33 (io), LCD-34 (io), LCD-35 (io), LCD-36 (io), LCD-37 (io), LCD-38 (io), LCD-39 (io), LCD-40 (io)
part A text: GPIO1
part B text: GPIO2
part C text: GPIO3
part D text: GPIO4
part E text: LCD

## Opamp
designator IC
footprint sot-23/5
pins: 1, 2, 3, 4, 5

## Quarc Crystal 4pin
designator X?
2.6x2.1x0.65 (YIC); Value: ?MHz
footprint XTAL4 (2.6x2.1x0.65mm 4-pin)
pins: 1 X1 (io), 2 GND (io), 3 X2 (io), 4 GND (io)

## RCLAMP
designator TVS?, comment Val?  (value not drawn)
Value: Val?
footprint SLP2510P8 (Semtech array ESD package)
pins: 1 IN (power), 2 IN (power), 3 (power), 3 (power), 4 IN (power), 5 IN (power), 6 OUT (power), 7 OUT (power), 9 OUT (power), 10 OUT (power)
text: TVS

## Resm
designator R?, comment Val?
Name: R?; Value: Val?
footprint R0805
footprint R0603
footprint R1206
pins: 1 (power), 2 (power)

## RJ45 trafo
designator J?
Name: J?
footprint RJ45 TRAFO (RJ45 w transformer)
pins: 1, 2, 3, 4, 5, 6, 7, 8, MH1 Shield, MH2 Shield

## Rladder
designator RL?, comment Val?
Name: RL?; Value: Val?
footprint Rlad (4x0603)
pins: 1 (power), 2 (power), 3 2 (power), 4 3 (power), 5 2 (power), 6 3 (power), 7 2 (power), 8 3 (power)

## SW
designator SW?, comment Value  (value not drawn)
Value: ???
footprint TACT 6X3.5MM SMD (Pitch 8mm, High 5mm, Demension 6x3.5mm)
pins: 1 0, 2 1

## TVS_Bi_small
designator TVS?, comment Val?
Name: TVS?; Value: Val?
footprint SMB
footprint SMA
footprint R0805
footprint R0603
pins: 1 (power), 2 (power)

## TVSsmall
designator TVS?, comment Val?
Name: TVS?; Value: Val?
footprint SMB
footprint SMA
footprint R0805
footprint R0603
pins: 1 anode (power), 2 cathode (power)

## VideoAmp
designator IC?
THS7372
footprint SSOP14
pins: 1 CVBS IN, 2 NC hidden, 3 VCC, 4 NC hidden, 5 FHD1 IN, 6 FHD2 IN, 7 FHD3 IN, 8 FHD3 OUT, 9 FHD2 OUT, 10 FHD1 OUT, 11 DIS FHD, 12 GND, 13 DIS CVBS, 14 CVBS OUT

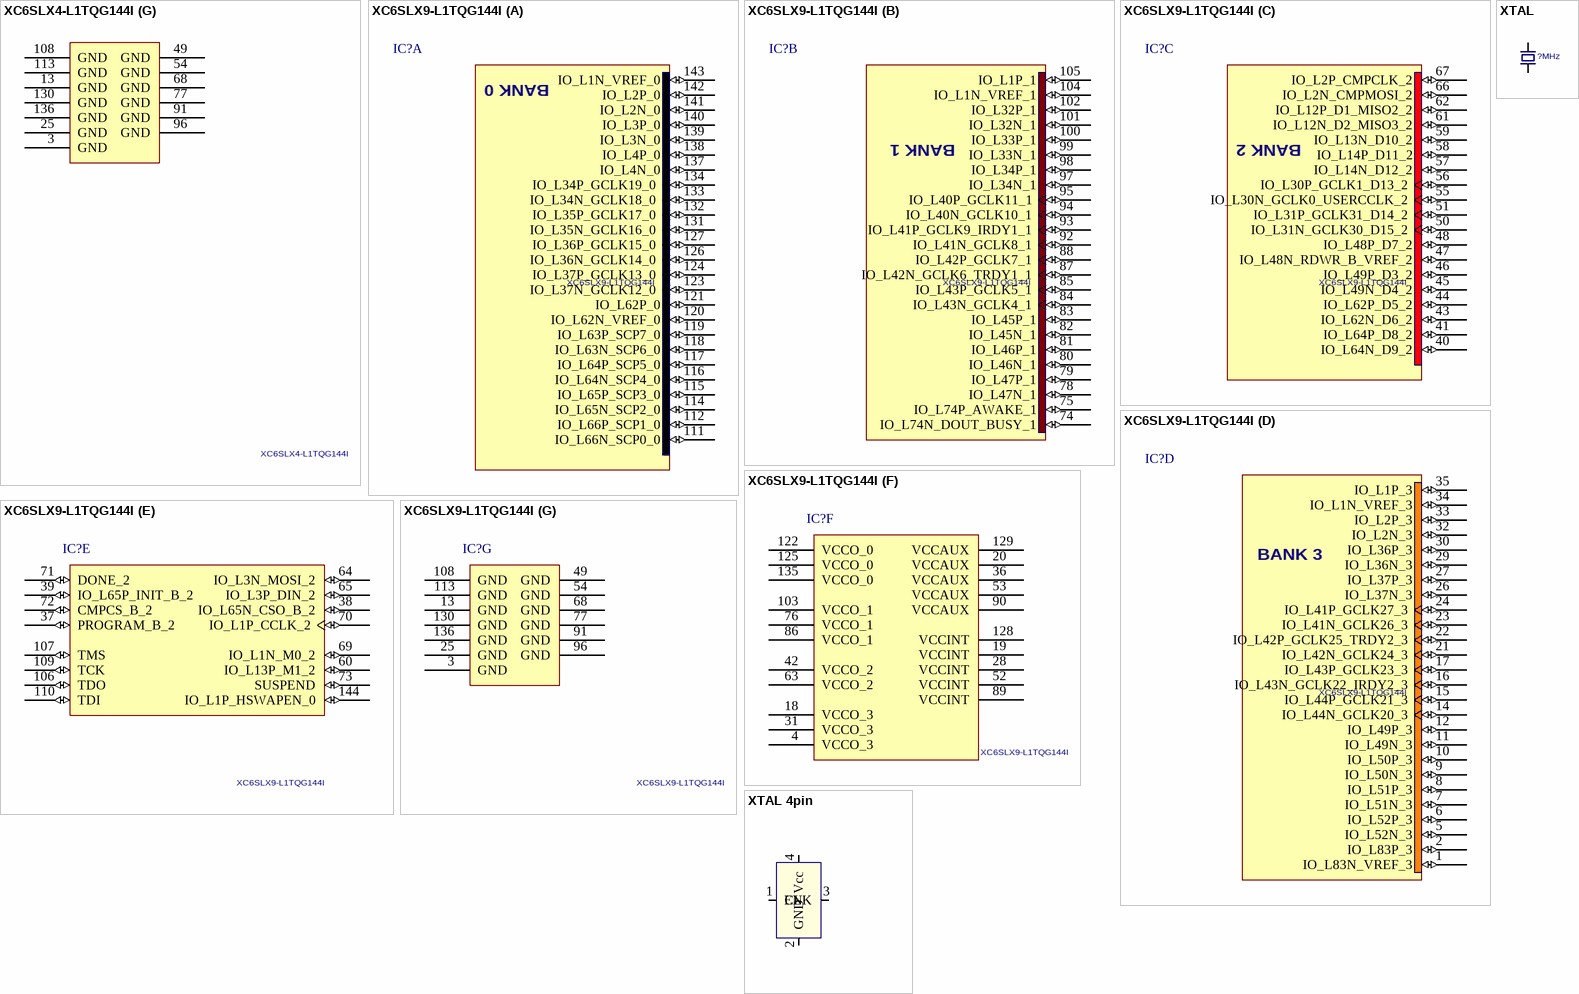
[diagram p4: symbols XC6SLX4-L1TQG144I to XTAL 4pin]

## XC6SLX4-L1TQG144I
designator IC?
Spartan-6 LX 1.0V FPGA, 102 User I/Os, 144-Pin TQFP (0.5mm Pitch), Low Power Version, Industrial Grade, Pb-Free; Name: IC?; DatasheetVersion: ver1.6, Nov-2010; PackageVersion: ver1.2, Jun-2004; PackageReference: TQG144; PackageDescription: 144-Pin Thin Quad Flat Pack (TQG144) - Pb-Free; Code_JEDEC: MS-026-BFB; ComponentLink1Description: Manufacturer URL; ComponentLink1URL: http://www.xilinx.com/; ComponentLink2Description: Spartan-6 Datasheet; ComponentLink2URL: http://www.xilinx.com/support/documentation/data_sheets/ds160.pdf; ComponentLink3Description: Spartan-6 Documents; ComponentLink3URL: http://www.xilinx.com/support/documentation/spartan-6.htm; Value: XC6SLX4-L1TQG144I
footprint TQG144_M (Thin QFP, 144-Leads, Body 20x20mm, Pitch 0.5mm, IPC Low Density)
part A pins: 111 IO_L66N_SCP0_0 (io), 112 IO_L66P_SCP1_0 (io), 114 IO_L65N_SCP2_0 (io), 115 IO_L65P_SCP3_0 (io), 116 IO_L64N_SCP4_0 (io), 117 IO_L64P_SCP5_0 (io), 118 IO_L63N_SCP6_0 (io), 119 IO_L63P_SCP7_0 (io), 120 IO_L62N_VREF_0 (io), 121 IO_L62P_0 (io), 123 IO_L37N_GCLK12_0 (io), 124 IO_L37P_GCLK13_0 (io), 126 IO_L36N_GCLK14_0 (io), 127 IO_L36P_GCLK15_0 (io), 131 IO_L35N_GCLK16_0 (io), 132 IO_L35P_GCLK17_0 (io), 133 IO_L34N_GCLK18_0 (io), 134 IO_L34P_GCLK19_0 (io), 137 IO_L4N_0 (io), 138 IO_L4P_0 (io), 139 IO_L3N_0 (io), 140 IO_L3P_0 (io), 141 IO_L2N_0 (io), 142 IO_L2P_0 (io), 143 IO_L1N_VREF_0 (io), 144 IO_L1P_HSWAPEN_0 (io)
part B pins: 74 IO_L74N_DOUT_BUSY_1 (io), 75 IO_L74P_AWAKE_1 (io), 78 IO_L47N_1 (io), 79 IO_L47P_1 (io), 80 IO_L46N_1 (io), 81 IO_L46P_1 (io), 82 IO_L45N_1 (io), 83 IO_L45P_1 (io), 84 IO_L43N_GCLK4_1 (io), 85 IO_L43P_GCLK5_1 (io), 87 IO_L42N_GCLK6_TRDY1_1 (io), 88 IO_L42P_GCLK7_1 (io), 92 IO_L41N_GCLK8_1 (io), 93 IO_L41P_GCLK9_IRDY1_1 (io), 94 IO_L40N_GCLK10_1 (io), 95 IO_L40P_GCLK11_1 (io), 97 IO_L34N_1 (io), 98 IO_L34P_1 (io), 99 IO_L33N_1 (io), 100 IO_L33P_1 (io), 101 IO_L32N_1 (io), 102 IO_L32P_1 (io), 104 IO_L1N_VREF_1 (io), 105 IO_L1P_1 (io)
part C pins: 38 IO_L65N_CSO_B_2 (io), 39 IO_L65P_INIT_B_2 (io), 40 IO_L64N_D9_2 (io), 41 IO_L64P_D8_2 (io), 43 IO_L62N_D6_2 (io), 44 IO_L62P_D5_2 (io), 45 IO_L49N_D4_2 (io), 46 IO_L49P_D3_2 (io), 47 IO_L48N_RDWR_B_VREF_2 (io), 48 IO_L48P_D7_2 (io), 50 IO_L31N_GCLK30_D15_2 (io), 51 IO_L31P_GCLK31_D14_2 (io), 55 IO_L30N_GCLK0_USERCCLK_2 (io), 56 IO_L30P_GCLK1_D13_2 (io), 57 IO_L14N_D12_2 (io), 58 IO_L14P_D11_2 (io), 59 IO_L13N_D10_2 (io), 60 IO_L13P_M1_2 (io), 61 IO_L12N_D2_MISO3_2 (io), 62 IO_L12P_D1_MISO2_2 (io), 64 IO_L3N_MOSI_CSI_B_MISO0_2 (io), 65 IO_L3P_D0_DIN_MISO_MISO1_2 (io), 66 IO_L2N_CMPMOSI_2 (io), 67 IO_L2P_CMPCLK_2 (io), 69 IO_L1N_M0_CMPMISO_2 (io), 70 IO_L1P_CCLK_2 (io)
part D pins: 1 IO_L83N_VREF_3 (io), 2 IO_L83P_3 (io), 5 IO_L52N_3 (io), 6 IO_L52P_3 (io), 7 IO_L51N_3 (io), 8 IO_L51P_3 (io), 9 IO_L50N_3 (io), 10 IO_L50P_3 (io), 11 IO_L49N_3 (io), 12 IO_L49P_3 (io), 14 IO_L44N_GCLK20_3 (io), 15 IO_L44P_GCLK21_3 (io), 16 IO_L43N_GCLK22_IRDY2_3 (io), 17 IO_L43P_GCLK23_3 (io), 21 IO_L42N_GCLK24_3 (io), 22 IO_L42P_GCLK25_TRDY2_3 (io), 23 IO_L41N_GCLK26_3 (io), 24 IO_L41P_GCLK27_3 (io), 26 IO_L37N_3 (io), 27 IO_L37P_3 (io), 29 IO_L36N_3 (io), 30 IO_L36P_3 (io), 32 IO_L2N_3 (io), 33 IO_L2P_3 (io), 34 IO_L1N_VREF_3 (io), 35 IO_L1P_3 (io)
part E pins: 37 PROGRAM_B_2 (in), 71 DONE_2 (io), 72 CMPCS_B_2 (in), 73 SUSPEND (in), 106 TDO (out), 107 TMS (in), 109 TCK (in), 110 TDI (in)
part F pins: 4 VCCO_3 (power), 18 VCCO_3 (power), 19 VCCINT (power), 20 VCCAUX (power), 28 VCCINT (power), 31 VCCO_3 (power), 36 VCCAUX (power), 42 VCCO_2 (power), 52 VCCINT (power), 53 VCCAUX (power), 63 VCCO_2 (power), 76 VCCO_1 (power), 86 VCCO_1 (power), 89 VCCINT (power), 90 VCCAUX (power), 103 VCCO_1 (power), 122 VCCO_0 (power), 125 VCCO_0 (power), 128 VCCINT (power), 129 VCCAUX (power), 135 VCCO_0 (power)
part G pins: 3 GND (power), 13 GND (power), 25 GND (power), 49 GND (power), 54 GND (power), 68 GND (power), 77 GND (power), 91 GND (power), 96 GND (power), 108 GND (power), 113 GND (power), 130 GND (power), 136 GND (power)
part A text: BANK 0
part B text: BANK 1
part C text: BANK 2
part D text: BANK 3

## XC6SLX9-L1TQG144I
designator IC?
Spartan-6 LX 1.0V FPGA, 102 User I/Os, 144-Pin TQFP (0.5mm Pitch), Low Power Version, Industrial Grade, Pb-Free; Name: IC?; DatasheetVersion: ver1.6, Nov-2010; PackageVersion: ver1.2, Jun-2004; PackageReference: TQG144; PackageDescription: 144-Pin Thin Quad Flat Pack (TQG144) - Pb-Free; Code_JEDEC: MS-026-BFB; ComponentLink1Description: Manufacturer URL; ComponentLink1URL: http://www.xilinx.com/; ComponentLink2Description: Spartan-6 Datasheet; ComponentLink2URL: http://www.xilinx.com/support/documentation/data_sheets/ds160.pdf; ComponentLink3Description: Spartan-6 Documents; ComponentLink3URL: http://www.xilinx.com/support/documentation/spartan-6.htm; Value: XC6SLX9-L1TQG144I
footprint TQG144_M (Thin QFP, 144-Leads, Body 20x20mm, Pitch 0.5mm, IPC Low Density)
part A pins: 111 IO_L66N_SCP0_0 (io), 112 IO_L66P_SCP1_0 (io), 114 IO_L65N_SCP2_0 (io), 115 IO_L65P_SCP3_0 (io), 116 IO_L64N_SCP4_0 (io), 117 IO_L64P_SCP5_0 (io), 118 IO_L63N_SCP6_0 (io), 119 IO_L63P_SCP7_0 (io), 120 IO_L62N_VREF_0 (io), 121 IO_L62P_0 (io), 123 IO_L37N_GCLK12_0 (io), 124 IO_L37P_GCLK13_0 (io), 126 IO_L36N_GCLK14_0 (io), 127 IO_L36P_GCLK15_0 (io), 131 IO_L35N_GCLK16_0 (io), 132 IO_L35P_GCLK17_0 (io), 133 IO_L34N_GCLK18_0 (io), 134 IO_L34P_GCLK19_0 (io), 137 IO_L4N_0 (io), 138 IO_L4P_0 (io), 139 IO_L3N_0 (io), 140 IO_L3P_0 (io), 141 IO_L2N_0 (io), 142 IO_L2P_0 (io), 143 IO_L1N_VREF_0 (io)
part B pins: 74 IO_L74N_DOUT_BUSY_1 (io), 75 IO_L74P_AWAKE_1 (io), 78 IO_L47N_1 (io), 79 IO_L47P_1 (io), 80 IO_L46N_1 (io), 81 IO_L46P_1 (io), 82 IO_L45N_1 (io), 83 IO_L45P_1 (io), 84 IO_L43N_GCLK4_1 (io), 85 IO_L43P_GCLK5_1 (io), 87 IO_L42N_GCLK6_TRDY1_1 (io), 88 IO_L42P_GCLK7_1 (io), 92 IO_L41N_GCLK8_1 (io), 93 IO_L41P_GCLK9_IRDY1_1 (io), 94 IO_L40N_GCLK10_1 (io), 95 IO_L40P_GCLK11_1 (io), 97 IO_L34N_1 (io), 98 IO_L34P_1 (io), 99 IO_L33N_1 (io), 100 IO_L33P_1 (io), 101 IO_L32N_1 (io), 102 IO_L32P_1 (io), 104 IO_L1N_VREF_1 (io), 105 IO_L1P_1 (io)
part C pins: 40 IO_L64N_D9_2 (io), 41 IO_L64P_D8_2 (io), 43 IO_L62N_D6_2 (io), 44 IO_L62P_D5_2 (io), 45 IO_L49N_D4_2 (io), 46 IO_L49P_D3_2 (io), 47 IO_L48N_RDWR_B_VREF_2 (io), 48 IO_L48P_D7_2 (io), 50 IO_L31N_GCLK30_D15_2 (io), 51 IO_L31P_GCLK31_D14_2 (io), 55 IO_L30N_GCLK0_USERCCLK_2 (io), 56 IO_L30P_GCLK1_D13_2 (io), 57 IO_L14N_D12_2 (io), 58 IO_L14P_D11_2 (io), 59 IO_L13N_D10_2 (io), 61 IO_L12N_D2_MISO3_2 (io), 62 IO_L12P_D1_MISO2_2 (io), 66 IO_L2N_CMPMOSI_2 (io), 67 IO_L2P_CMPCLK_2 (io)
part D pins: 1 IO_L83N_VREF_3 (io), 2 IO_L83P_3 (io), 5 IO_L52N_3 (io), 6 IO_L52P_3 (io), 7 IO_L51N_3 (io), 8 IO_L51P_3 (io), 9 IO_L50N_3 (io), 10 IO_L50P_3 (io), 11 IO_L49N_3 (io), 12 IO_L49P_3 (io), 14 IO_L44N_GCLK20_3 (io), 15 IO_L44P_GCLK21_3 (io), 16 IO_L43N_GCLK22_IRDY2_3 (io), 17 IO_L43P_GCLK23_3 (io), 21 IO_L42N_GCLK24_3 (io), 22 IO_L42P_GCLK25_TRDY2_3 (io), 23 IO_L41N_GCLK26_3 (io), 24 IO_L41P_GCLK27_3 (io), 26 IO_L37N_3 (io), 27 IO_L37P_3 (io), 29 IO_L36N_3 (io), 30 IO_L36P_3 (io), 32 IO_L2N_3 (io), 33 IO_L2P_3 (io), 34 IO_L1N_VREF_3 (io), 35 IO_L1P_3 (io)
part E pins: 37 PROGRAM_B_2 (io), 38 IO_L65N_CSO_B_2 (io), 39 IO_L65P_INIT_B_2 (io), 60 IO_L13P_M1_2 (io), 64 IO_L3N_MOSI_2 (io), 65 IO_L3P_DIN_2 (io), 69 IO_L1N_M0_2 (io), 70 IO_L1P_CCLK_2 (io), 71 DONE_2 (io), 72 CMPCS_B_2 (io), 73 SUSPEND (io), 106 TDO (io), 107 TMS (io), 109 TCK (io), 110 TDI (io), 144 IO_L1P_HSWAPEN_0 (io)
part F pins: 4 VCCO_3 (power), 18 VCCO_3 (power), 19 VCCINT (power), 20 VCCAUX (power), 28 VCCINT (power), 31 VCCO_3 (power), 36 VCCAUX (power), 42 VCCO_2 (power), 52 VCCINT (power), 53 VCCAUX (power), 63 VCCO_2 (power), 76 VCCO_1 (power), 86 VCCO_1 (power), 89 VCCINT (power), 90 VCCAUX (power), 103 VCCO_1 (power), 122 VCCO_0 (power), 125 VCCO_0 (power), 128 VCCINT (power), 129 VCCAUX (power), 135 VCCO_0 (power)
part G pins: 3 GND (power), 13 GND (power), 25 GND (power), 49 GND (power), 54 GND (power), 68 GND (power), 77 GND (power), 91 GND (power), 96 GND (power), 108 GND (power), 113 GND (power), 130 GND (power), 136 GND (power)
part A text: BANK 0
part B text: BANK 1
part C text: BANK 2
part D text: BANK 3

## XTAL
designator X?, comment ?MHz
Name: X?; Value: ?MHz
footprint HC49 (Crystal Oscillator)
footprint HC49/4h (Crystal Oscillator)
pins: 1 (power), 2 (power)

## XTAL 4pin
designator X?, comment ? MHz
Value: ? MHz
footprint 5.0x3.2x1.3mm (XTALL)
pins: 1 EN, 2 GND, 3 CLK, 4 Vcc